# Altium footprint library Sensor.PcbLib: 2 footprints
Each footprint in its own frame and in the unit in brackets; x right, y up, seen from the top. Pads: shape width x height; smd on the part's side, far side on the other; paste and mask are expansions set on the pad; w line width, h text height; cw(c..) or ccw(c..) is an arc to the next point about the centre after c.
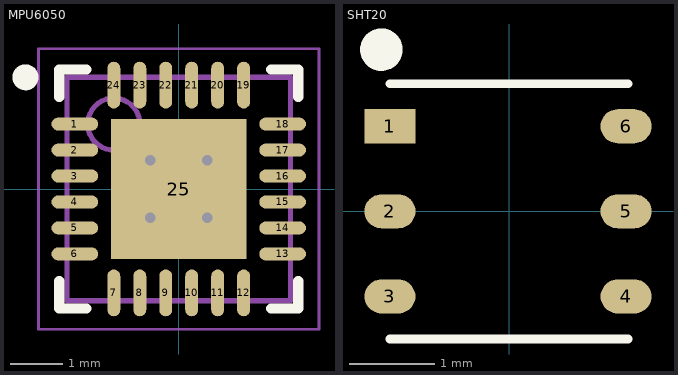
[diagram p0: the footprints below, top view; thin cyan lines are the x and y axes]

## MPU6050 [mm]
height 0.9
pads (25):
  oval 0.9x0.25 smd: 1(-2,1.25) 2(-2,0.75) 3(-2,0.25) 4(-2,-0.25) 5(-2,-0.75) 6(-2,-1.25) 13(2,-1.25) 14(2,-0.75) 15(2,-0.25) 16(2,0.25) 17(2,0.75) 18(2,1.25)
  oval 0.25x0.9 smd: 7(-1.25,-2) 8(-0.75,-2) 9(-0.25,-2) 10(0.25,-2) 11(0.75,-2) 12(1.25,-2) 19(1.25,2) 20(0.75,2) 21(0.25,2) 22(-0.25,2) 23(-0.75,2) 24(-1.25,2)
  rect 2.6x2.7 smd: 25(0,0)
via -0.55,0.55 diameter 0.5 hole 0.2
via 0.55,0.55 diameter 0.5 hole 0.2
via -0.55,-0.55 diameter 0.5 hole 0.2
via 0.55,-0.55 diameter 0.5 hole 0.2
Top Overlay:
  circle w0.25: c-2.95,2.15 r0.125
  lines w0.2: -2.3,-1.775 -2.3,-2.3 -1.775,-2.3 ; -2.3,1.775 -2.3,2.3 -1.775,2.3 ; 1.775,-2.3 2.3,-2.3 2.3,-1.775 ; 1.775,2.3 2.3,2.3 2.3,1.775
Mechanical 13:
  circle w0.1: c-1.25,1.25 r0.5
  lines w0.1: -2.15,-2.15 -2.15,2.15 2.15,2.15 2.15,-2.15 -2.15,-2.15
Mechanical 15:
  lines w0.05: -2.7,-2.7 -2.7,2.7 2.7,2.7 2.7,-2.7 -2.7,-2.7
  lines w0.1: -0.5,0 0.5,0 ; 0,-0.5 0,0.5
3D body: height 0.9, standoff 0.02, extent -2.15,-2.15 2.15,2.15

## SHT20 [mm]
height 0.9
pads (6):
  rect 0.6x0.4 smd: 1(-1.4,1)
  oval 0.6x0.4 smd: 2(-1.4,0) 3(-1.4,-1) 4(1.375,-1) 5(1.375,0) 6(1.375,1)
Top Overlay:
  circle w0.25: c-1.5,1.9 r0.125
  lines w0.1: -1.4,-1.5 1.4,-1.5 ; -1.4,1.5 1.4,1.5